# Altium footprint library CPDQ3V3-HF.PcbLib: 3 footprints
Each footprint in its own frame and in the unit in brackets; x right, y up, seen from the top. Pads: shape width x height; smd on the part's side, far side on the other; paste and mask are expansions set on the pad; w line width, h text height; cw(c..) or ccw(c..) is an arc to the next point about the centre after c.
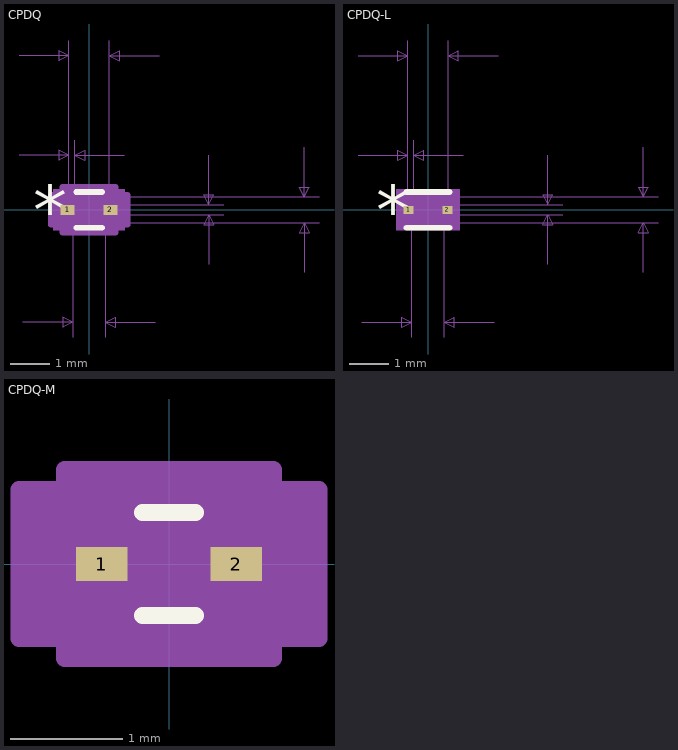
[diagram p0: the footprints below, top view; thin cyan lines are the x and y axes]

## CPDQ [mil]
pads (2):
  rect 14x10 smd paste+0 mask+0: 1(-21.5,0) 2(21.5,0)
Top Overlay:
  lines w6: -12.88,-18 12.88,-18 ; -12.88,18 12.88,18
  text "*" at -56,-25 h50
Mechanical 5:
  region: 36,-20.5 -36,-20.5 -36,20.5 36,20.5
Mechanical 7:
  lines w1: -70.5,55 -20.5,55 ; -70.5,155 -20.5,155 ; -66.5,-113 -16.5,-113 ; -20.5,70 -20.5,0 -20.5,170 ; -16.5,-128 -16.5,0 ; -14.5,0 -14.5,70 ; 0,-13 231.5,-13 ; 0,13 231.5,13 ; 16.5,-128 16.5,0 ; 20.5,-5 135.5,-5 ; 20.5,0 20.5,170 ; 20.5,5 135.5,5 ; 35.5,55 -14.5,55 ; 66.5,-113 16.5,-113 ; 70.5,155 20.5,155 ; 120.5,-55 120.5,-5 ; 120.5,55 120.5,5 ; 216.5,-63 216.5,-13 ; 216.5,63 216.5,13 ; -20.5,55 -30.5,60 -30.5,50 -20.5,55 ; -20.5,155 -30.5,160 -30.5,150 -20.5,155 ; -16.5,-113 -26.5,-108 -26.5,-118 -16.5,-113 ; -14.5,55 -4.5,60 -4.5,50 -14.5,55 ; 16.5,-113 26.5,-108 26.5,-118 16.5,-113 ; 20.5,155 30.5,160 30.5,150 20.5,155 ; 120.5,-5 115.5,-15 125.5,-15 120.5,-5 ; 120.5,5 115.5,15 125.5,15 120.5,5 ; 216.5,-13 211.5,-23 221.5,-23 216.5,-13 ; 216.5,13 211.5,23 221.5,23 216.5,13
  text "Default Padstyle: RX14Y10D0T" at -350,-330 h50
  text "Alt 1 Padstyle: OX60Y90D30P" at -337.5,-405 h50
  text "Alt 2 Padstyle: OX90Y60D30P" at -337.5,-480 h50
  text "0.041in/1.041mm" at -93.75,175 h25
  text "0.006in/0.152mm" at -111.25,75 h25
  text "0.01in/0.254mm" at 140.5,-12.5 h25
  text "0.026in/0.66mm" at 236.5,-12.5 h25
  text "0.033in/0.838mm" at -93.75,-158 h25
Mechanical 13:
  lines w1: -16.5,-6.5 -10,-13 ; -16.5,6.5 -10,13 ; -20.5,-5 -20.5,5 -16.5,5 -16.5,-5 -20.5,-5 ; -16.5,-13 16.5,-13 16.5,13 -16.5,13 -16.5,-13 ; 16.5,-5 16.5,5 20.5,5 20.5,-5 16.5,-5
  text "*" at -19,-25 h50
Mechanical 15:
  region: -26.5,-15 -38.5,-15 -38.5,15 -26.5,15 -26.5,23 26.5,23 26.5,15 38.5,15 38.5,-15 26.5,-15 26.5,-23 -26.5,-23
  lines w6: -38.5,-15 -38.5,15 -26.5,15 -26.5,23 26.5,23 26.5,15 38.5,15 38.5,-15 26.5,-15 26.5,-23 -26.5,-23 -26.5,-15 -38.5,-15
3D body: height 10, standoff 0, extent 0,0 10,10

## CPDQ-L [mil]
pads (2):
  rect 10x8 smd paste+0 mask+0: 1(-19.5,0) 2(19.5,0)
Top Overlay:
  lines w6: -21.5,-18 21.5,-18 ; -21.5,18 21.5,18
  text "*" at -52,-25 h50
Mechanical 5:
  region: 32,-20.5 -32,-20.5 -32,20.5 32,20.5
Mechanical 7:
  lines w1: -70.5,55 -20.5,55 ; -70.5,155 -20.5,155 ; -66.5,-113 -16.5,-113 ; -20.5,70 -20.5,0 -20.5,170 ; -16.5,-128 -16.5,0 ; -14.5,0 -14.5,70 ; 0,-13 231.5,-13 ; 0,13 231.5,13 ; 16.5,-128 16.5,0 ; 20.5,-5 135.5,-5 ; 20.5,0 20.5,170 ; 20.5,5 135.5,5 ; 35.5,55 -14.5,55 ; 66.5,-113 16.5,-113 ; 70.5,155 20.5,155 ; 120.5,-55 120.5,-5 ; 120.5,55 120.5,5 ; 216.5,-63 216.5,-13 ; 216.5,63 216.5,13 ; -20.5,55 -30.5,50 -30.5,60 -20.5,55 ; -20.5,155 -30.5,150 -30.5,160 -20.5,155 ; -16.5,-113 -26.5,-118 -26.5,-108 -16.5,-113 ; -14.5,55 -4.5,50 -4.5,60 -14.5,55 ; 16.5,-113 26.5,-118 26.5,-108 16.5,-113 ; 20.5,155 30.5,150 30.5,160 20.5,155 ; 120.5,-5 125.5,-15 115.5,-15 120.5,-5 ; 120.5,5 125.5,15 115.5,15 120.5,5 ; 216.5,-13 221.5,-23 211.5,-23 216.5,-13 ; 216.5,13 221.5,23 211.5,23 216.5,13
  text "0.033in/0.838mm" at -93.75,-158 h25
  text "0.026in/0.66mm" at 236.5,-12.5 h25
  text "0.01in/0.254mm" at 140.5,-12.5 h25
  text "0.006in/0.152mm" at -111.25,75 h25
  text "0.041in/1.041mm" at -93.75,175 h25
  text "Alt 2 Padstyle: OX90Y60D30P" at -337.5,-479 h50
  text "Alt 1 Padstyle: OX60Y90D30P" at -337.5,-404 h50
  text "Default Padstyle: RX10Y8D0T" at -337.5,-329 h50
Mechanical 13:
  lines w1: -16.5,-6.5 -10,-13 ; -16.5,6.5 -10,13 ; -20.5,-5 -16.5,-5 -16.5,5 -20.5,5 -20.5,-5 ; -16.5,-13 -16.5,13 16.5,13 16.5,-13 -16.5,-13 ; 16.5,-5 20.5,-5 20.5,5 16.5,5 16.5,-5
  text "*" at -19,-25 h50
Mechanical 15:
  region: -20.5,-8 -28.5,-8 -28.5,8 -20.5,8 -20.5,17 20.5,17 20.5,8 28.5,8 28.5,-8 20.5,-8 20.5,-17 -20.5,-17
  lines w6: -28.5,-8 -20.5,-8 -20.5,-17 20.5,-17 20.5,-8 28.5,-8 28.5,8 20.5,8 20.5,17 -20.5,17 -20.5,8 -28.5,8 -28.5,-8
3D body: height 10, standoff 0, extent 0,0 10,10

## CPDQ-M [mil]
pads (2):
  rect 18x12 smd paste+0 mask+0: 1(-23.5,0) 2(23.5,0)
Top Overlay:
  lines w6: -9.25,-18 9.25,-18 ; -9.25,18 9.25,18
Mechanical 5:
  region: 40,-20.5 -40,-20.5 -40,20.5 40,20.5
Mechanical 13:
  lines w1: -16.5,-6.5 -10,-13 ; -16.5,6.5 -10,13 ; -20.5,-5 -16.5,-5 -16.5,5 -20.5,5 -20.5,-5 ; -16.5,-13 -16.5,13 16.5,13 16.5,-13 -16.5,-13 ; 16.5,-5 20.5,-5 20.5,5 16.5,5 16.5,-5
  text "*" at -19,-25 h50
Mechanical 15:
  region: -36.5,-26 -52.5,-26 -52.5,26 -36.5,26 -36.5,33 36.5,33 36.5,26 52.5,26 52.5,-26 36.5,-26 36.5,-33 -36.5,-33
  lines w6: -52.5,-26 -36.5,-26 -36.5,-33 36.5,-33 36.5,-26 52.5,-26 52.5,26 36.5,26 36.5,33 -36.5,33 -36.5,26 -52.5,26 -52.5,-26
3D body: height 10, standoff 0, extent 0,0 10,10